# Altium footprint library VREG_TL431CLP.PcbLib: 1 footprints
Each footprint in its own frame and in the unit in brackets; x right, y up, seen from the top. Pads: shape width x height; smd on the part's side, far side on the other; paste and mask are expansions set on the pad; w line width, h text height; cw(c..) or ccw(c..) is an arc to the next point about the centre after c.
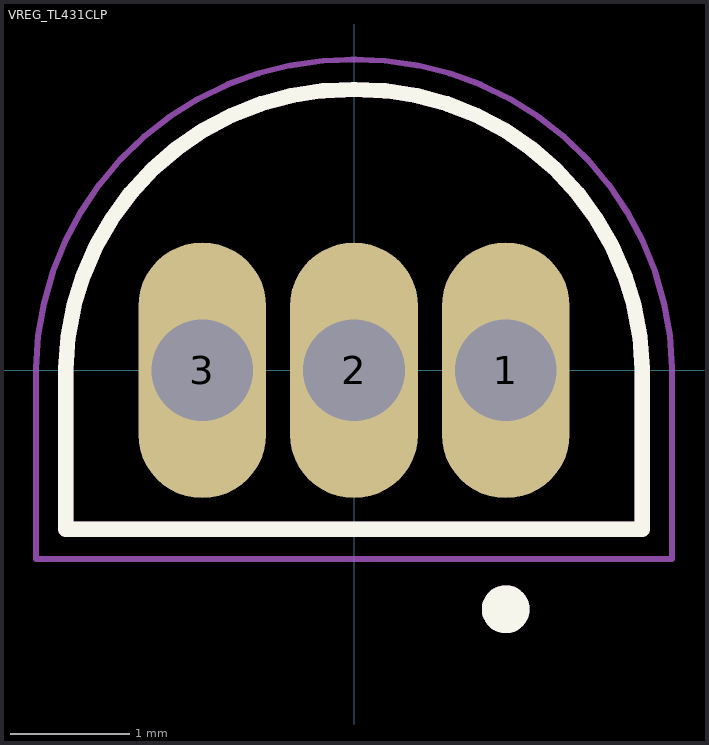
[diagram p0: the footprint, top view; thin cyan lines are the x and y axes]

## VREG_TL431CLP [mm]
height 7.35
pads (3):
  oval 1.07x2.14 hole 0.85: 1(1.27,0) 2(0,0) 3(-1.27,0)
Top Overlay:
  circle w0.2: c1.27,-2 r0.1
  lines w0.127: -2.412,0 -2.412,-1.33 2.412,-1.33 2.412,0 ; -2.412,0.01 cw(c-0.031,-0.031) 0.01,2.35 ; -0.01,2.35 cw(c0.031,-0.031) 2.412,0.01
Mechanical 13:
  circle w0.2: c1.27,-2 r0.1
  lines w0.127: -2.412,0 -2.412,-1.33 2.412,-1.33 2.412,0 ; -2.412,0.01 cw(c-0.031,-0.031) 0.01,2.35 ; -0.01,2.35 cw(c0.031,-0.031) 2.412,0.01
Mechanical 15:
  lines w0.05: -2.662,0 -2.662,-1.58 2.662,-1.58 2.662,0 ; -2.662,0.015 cw(c-0.031,-0.031) 0.015,2.6 ; -0.015,2.6 cw(c0.031,-0.031) 2.662,0.015
3D body "step_temp.STEP": height 5.34, standoff -12.7, extent -2.412,-1.33 2.412,2.35